# Altium footprint library PcbLib_ADH.PcbLib: 136 footprints (part 7 of 9)
Each footprint in its own frame and in the unit in brackets; x right, y up, seen from the top. Pads: shape width x height; smd on the part's side, far side on the other; paste and mask are expansions set on the pad; w line width, h text height; cw(c..) or ccw(c..) is an arc to the next point about the centre after c.
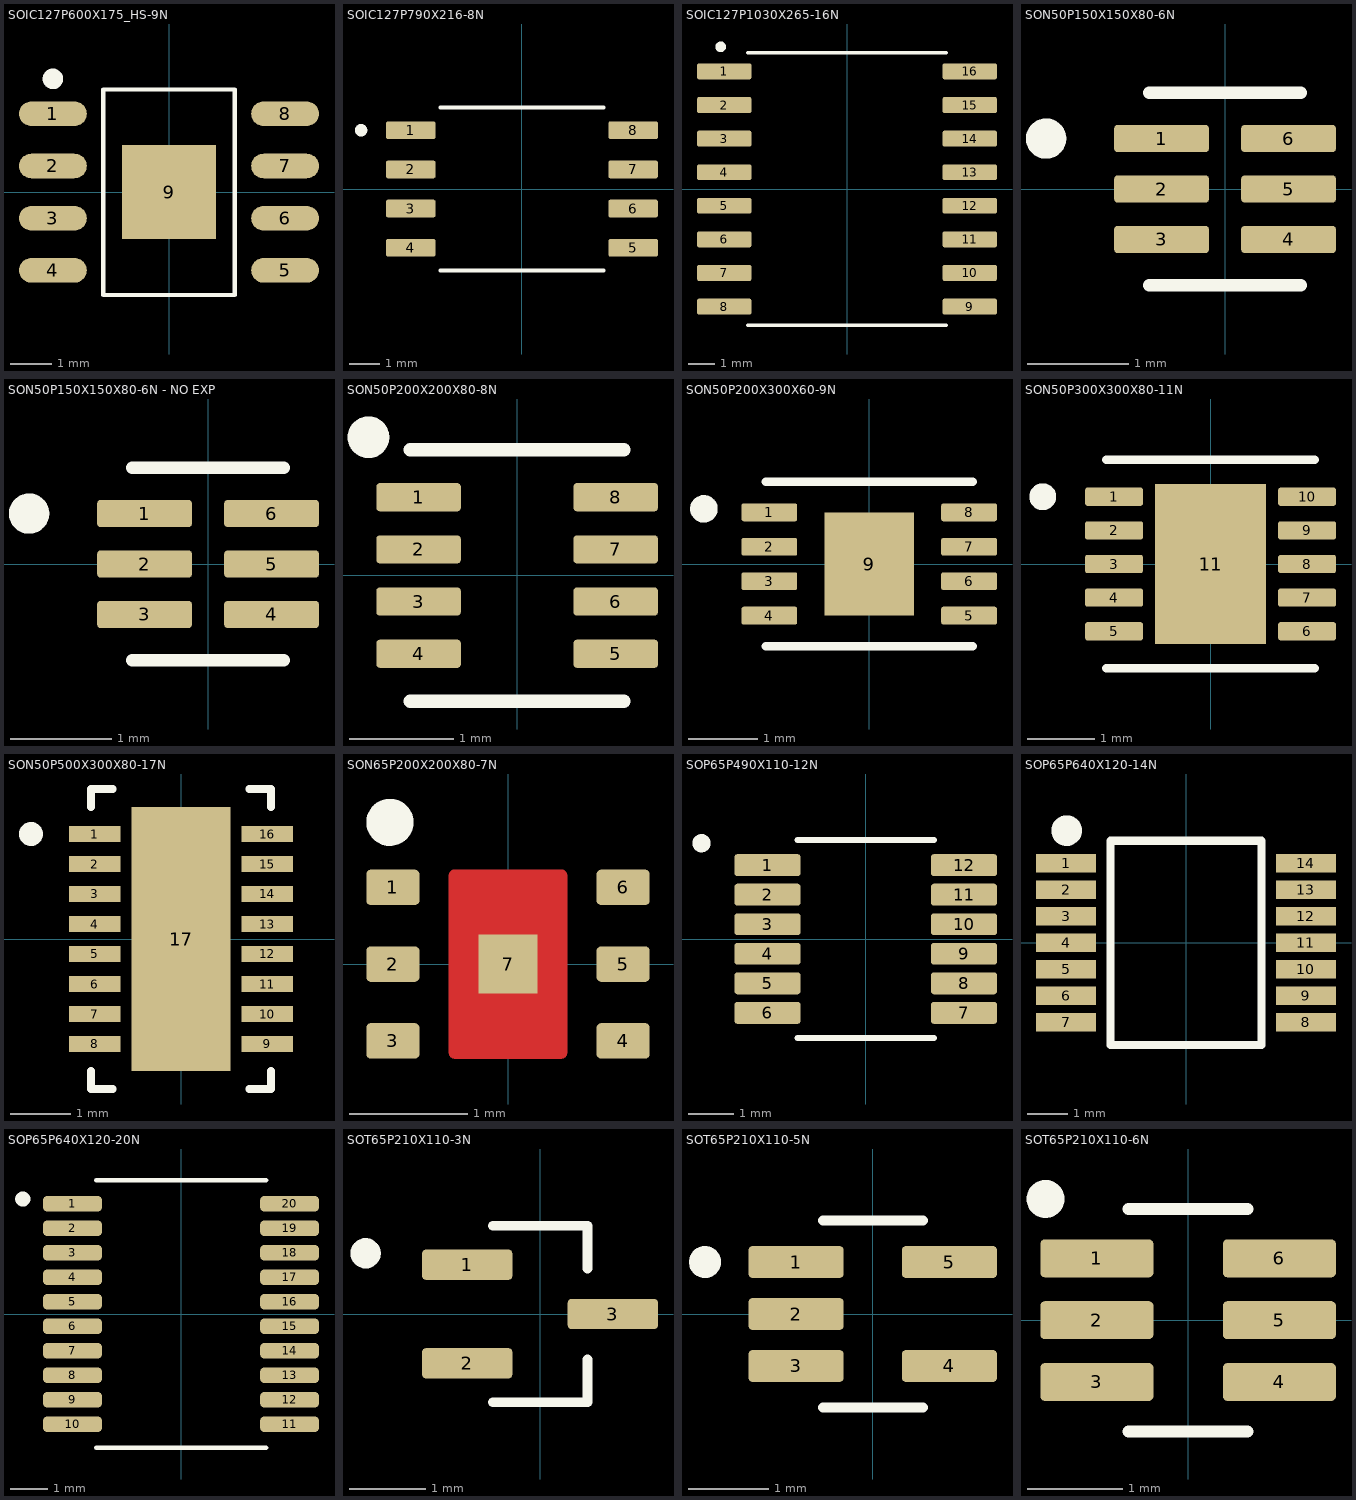
[diagram p6: the footprints below, top view; thin cyan lines are the x and y axes]

## SOIC127P600X175_HS-9N [mm] "SOIC, 8-Leads, Body 4,90x3,90mm, Pitch 1,27mm, Thermal Pad 2,29x2,29mm, IPC Medium Density"
height 1.75
pads (9):
  oval 1.65x0.6 smd: 1(-2.825,1.905) 2(-2.825,0.635) 3(-2.825,-0.635) 4(-2.825,-1.905) 5(2.825,-1.905) 6(2.825,-0.635) 7(2.825,0.635) 8(2.825,1.905)
  rect 2.29x2.29 smd: 9(0,0)
Top Overlay:
  circle w0.25: c-2.825,2.755 r0.125
  lines w0.1: -1.6,-2.5 1.6,-2.5 1.6,2.5 -1.6,2.5 -1.6,-2.5
3D body "SOIC127P600X175_HS-9N.step": height 1.75, standoff 0, extent -3,-2.5 3,2.5

## SOIC127P790X216-8N [mm]
pads (8):
  rrect25% 1.61x0.58 smd: 1(-3.605,1.905) 2(-3.605,0.635) 3(-3.605,-0.635) 4(-3.605,-1.905) 5(3.605,-1.905) 6(3.605,-0.635) 7(3.605,0.635) 8(3.605,1.905)
Top Overlay:
  circle w0.2: c-5.215,1.905 r0.1
  lines w0.127: -2.64,-2.64 2.64,-2.64 ; -2.64,2.64 2.64,2.64
3D body "step_temp.STEP": height 2.16, standoff 0, extent -3.95,-2.64 3.95,2.64

## SOIC127P1030X265-16N [mm]
pads (16):
  rrect25% 2.06x0.6 smd: 1(-4.64,4.445) 2(-4.64,3.175) 3(-4.64,1.905) 4(-4.64,0.635) 5(-4.64,-0.635) 6(-4.64,-1.905) 7(-4.64,-3.175) 8(-4.64,-4.445) 9(4.64,-4.445) 10(4.64,-3.175) 11(4.64,-1.905) 12(4.64,-0.635) 13(4.64,0.635) 14(4.64,1.905) 15(4.64,3.175) 16(4.64,4.445)
Top Overlay:
  circle w0.2: c-4.775,5.375 r0.1
  lines w0.127: -3.75,-5.15 3.75,-5.15 ; -3.75,5.15 3.75,5.15
3D body "step_temp.STEP": height 2.67, standoff 0.02, extent -5.15,-5.15 5.15,5.15

## SON50P150X150X80-6N [mm]
pads (6):
  rrect25% 0.94x0.27 smd: 1(-0.63,0.5) 2(-0.63,0) 3(-0.63,-0.5) 4(0.63,-0.5) 5(0.63,0) 6(0.63,0.5)
Top Overlay:
  circle w0.2: c-1.775,0.5 r0.1
  lines w0.127: -0.75,-0.955 0.75,-0.955 ; -0.75,0.955 0.75,0.955
3D body "step_temp.STEP": height 0.8, standoff 0, extent -0.75,-0.75 0.75,0.75

## SON50P150X150X80-6N - NO EXP [mm]
pads (6):
  rrect25% 0.94x0.27 smd: 1(-0.63,0.5) 2(-0.63,0) 3(-0.63,-0.5) 4(0.63,-0.5) 5(0.63,0) 6(0.63,0.5)
Top Overlay:
  circle w0.2: c-1.775,0.5 r0.1
  lines w0.127: -0.75,-0.955 0.75,-0.955 ; -0.75,0.955 0.75,0.955
3D body "step_temp.STEP": height 0.8, standoff 0, extent -0.75,-0.75 0.75,0.75

## SON50P200X200X80-8N [mm]
pads (8):
  rrect25% 0.81x0.27 smd: 1(-0.945,0.75) 2(-0.945,0.25) 3(-0.945,-0.25) 4(-0.945,-0.75) 5(0.945,-0.75) 6(0.945,-0.25) 7(0.945,0.25) 8(0.945,0.75)
Top Overlay:
  circle w0.2: c-1.425,1.325 r0.1
  lines w0.127: -1.025,-1.205 1.025,-1.205 ; -1.025,1.205 1.025,1.205
3D body "MAX15062AATA+T.stp": height 0.9, standoff 0, extent -1,-1 1,1

## SON50P200X300X60-9N [mm]
pads (9):
  rrect25% 0.81x0.26 smd: 1(-1.45,0.75) 2(-1.45,0.25) 3(-1.45,-0.25) 4(-1.45,-0.75) 5(1.45,-0.75) 6(1.45,-0.25) 7(1.45,0.25) 8(1.45,0.75)
  rect 1.3x1.5 smd paste-2: 9(0,0)
Top Overlay:
  circle w0.2: c-2.4,0.8 r0.1
  lines w0.127: -1.5,-1.194 1.5,-1.194 ; -1.5,1.194 1.5,1.194
Top Paste:
  region: 0.411,-0.474 -0.411,-0.474 -0.411,0.474 0.411,0.474
3D body "AT24C02D-MAHM-T.STEP": height 0.61, standoff 0.01, extent -1.5,-1 1.5,1

## SON50P300X300X80-11N [mm]
pads (11):
  rrect25% 0.86x0.27 smd: 1(-1.435,1) 2(-1.435,0.5) 3(-1.435,0) 4(-1.435,-0.5) 5(-1.435,-1) 6(1.435,-1) 7(1.435,-0.5) 8(1.435,0) 9(1.435,0.5) 10(1.435,1)
  rect 1.65x2.38 smd paste-2: 11(0,0)
Top Overlay:
  circle w0.2: c-2.495,1 r0.1
  lines w0.127: -1.55,-1.55 1.55,-1.55 ; -1.55,1.55 1.55,1.55
Top Paste:
  region: 0.52,-0.75 -0.52,-0.75 -0.52,0.75 0.52,0.75
3D body "step_temp.STEP": height 0.8, standoff 0, extent -1.5,-1.5 1.5,1.5

## SON50P500X300X80-17N [mm]
pads (17):
  rect 0.86x0.27 smd mask+0.05: 1(-1.435,1.75) 2(-1.435,1.25) 3(-1.435,0.75) 4(-1.435,0.25) 5(-1.435,-0.25) 6(-1.435,-0.75) 7(-1.435,-1.25) 8(-1.435,-1.75) 9(1.435,-1.75) 10(1.435,-1.25) 11(1.435,-0.75) 12(1.435,-0.25) 13(1.435,0.25) 14(1.435,0.75) 15(1.435,1.25) 16(1.435,1.75)
  rect 1.65x4.4 smd paste-3 mask+0.05: 17(0,0)
Top Overlay:
  circle w0.2: c-2.5,1.75 r0.1
  lines w0.127: -1.5,-2.2 -1.5,-2.5 -1.14,-2.5 ; -1.5,2.2 -1.5,2.5 -1.14,2.5 ; 1.14,-2.5 1.5,-2.5 1.5,-2.2 ; 1.14,2.5 1.5,2.5 1.5,2.2
Top Paste:
  region: 0.405,0.14 -0.405,0.14 -0.405,1.92 0.405,1.92
  region: 0.405,-1.92 -0.405,-1.92 -0.405,-0.14 0.405,-0.14
3D body "step_temp.STEP": height 0.8, standoff 0, extent -1.5,-2.5 1.5,2.5

## SON65P200X200X80-7N [mm]
pads (7):
  rrect25% 0.45x0.3 smd mask+0: 1(-0.975,0.65) 2(-0.975,0) 3(-0.975,-0.65) 4(0.975,-0.65) 5(0.975,0) 6(0.975,0.65)
  rect 0.5x0.5 smd paste-1 mask+0: 7(0,0)
Top Layer:
  region: 0.458,0.799 0.46,0.799 0.463,0.798 0.465,0.798 0.468,0.797 0.47,0.796 0.473,0.795 0.475,0.793 0.477,0.792 0.479,0.79 0.481,0.789 0.483,0.787 0.485,0.785 0.487,0.783 0.489,0.781 0.49,0.779 0.492,0.777 0.493,0.775 0.495,0.773 0.496,0.77 0.497,0.768 0.498,0.765 0.498,0.763 0.499,0.76 0.499,0.758 0.5,0.755 0.5,0.753 0.5,0.75 0.5,-0.75 0.5,-0.753 0.5,-0.755 0.499,-0.758 0.499,-0.76 0.498,-0.763 0.498,-0.765 0.497,-0.768 0.496,-0.77 0.495,-0.773 0.493,-0.775 0.492,-0.777 0.49,-0.779 0.489,-0.781 0.487,-0.783 0.485,-0.785 0.483,-0.787 0.481,-0.789 0.479,-0.79 0.477,-0.792 0.475,-0.793 0.473,-0.795 0.47,-0.796 0.468,-0.797 0.465,-0.798 0.463,-0.798 0.46,-0.799 0.458,-0.799 0.455,-0.8 -0.455,-0.8 -0.458,-0.799 -0.46,-0.799 -0.463,-0.798 -0.465,-0.798 -0.468,-0.797 -0.47,-0.796 -0.473,-0.795 -0.475,-0.793 -0.477,-0.792 -0.479,-0.79 -0.481,-0.789 -0.483,-0.787 -0.485,-0.785 -0.487,-0.783 -0.489,-0.781 -0.49,-0.779 -0.492,-0.777 -0.493,-0.775 -0.495,-0.773 -0.496,-0.77 -0.497,-0.768 -0.498,-0.765 -0.498,-0.763 -0.499,-0.76 -0.499,-0.758 -0.5,-0.755 -0.5,-0.753 -0.5,-0.75 -0.5,0.75 -0.5,0.753 -0.5,0.755 -0.499,0.758 -0.499,0.76 -0.498,0.763 -0.498,0.765 -0.497,0.768 -0.496,0.77 -0.495,0.773 -0.493,0.775 -0.492,0.777 -0.49,0.779 -0.489,0.781 -0.487,0.783 -0.485,0.785 -0.483,0.787 -0.481,0.789 -0.479,0.79 -0.477,0.792 -0.475,0.793 -0.473,0.795 -0.47,0.796 -0.468,0.797 -0.465,0.798 -0.463,0.798 -0.46,0.799 -0.458,0.799 -0.455,0.8 0.455,0.8
Top Overlay:
  circle w0.2: c-1,1.2 r0.1
Top Paste:
  drawing of 2 lines, arcs and shapes, not listed
Top Solder:
  drawing of 7 lines, arcs and shapes, not listed
3D body "step_temp.STEP": height 0.8, standoff 0, extent -1,-1 1,1

## SOP65P490X110-12N [mm]
pads (12):
  rrect25% 1.45x0.48 smd: 1(-2.16,1.625) 2(-2.16,0.975) 3(-2.16,0.325) 4(-2.16,-0.325) 5(-2.16,-0.975) 6(-2.16,-1.625) 7(2.16,-1.625) 8(2.16,-0.975) 9(2.16,-0.325) 10(2.16,0.325) 11(2.16,0.975) 12(2.16,1.625)
Top Overlay:
  circle w0.2: c-3.61,2.105 r0.1
  lines w0.127: -1.5,-2.178 1.5,-2.178 ; -1.5,2.178 1.5,2.178
3D body "User Library-msop-12.STEP": height 1.1, standoff 0, extent -2.45,-2.02 2.45,2.02

## SOP65P640X120-14N [mm]
pads (14):
  rect 1.475x0.45 smd: 1(-2.938,1.95) 2(-2.938,1.3) 3(-2.938,0.65) 4(-2.938,0) 5(-2.938,-0.65) 6(-2.938,-1.3) 7(-2.938,-1.95) 8(2.938,-1.95) 9(2.938,-1.3) 10(2.938,-0.65) 11(2.938,0) 12(2.938,0.65) 13(2.938,1.3) 14(2.938,1.95)
Top Overlay:
  circle w0.5: c-2.925,2.75 r0.125
  lines w0.2: -1.85,-2.5 -1.85,2.5 1.85,2.5 1.85,-2.5 -1.85,-2.5
3D body "USB1T11AMTC.STEP": height 1.06, standoff -0.14, extent -3.2,-2.5 3.2,2.5

## SOP65P640X120-20N [mm]
pads (20):
  rrect50% 1.56x0.41 smd: 1(-2.88,2.925) 2(-2.88,2.275) 3(-2.88,1.625) 4(-2.88,0.975) 5(-2.88,0.325) 6(-2.88,-0.325) 7(-2.88,-0.975) 8(-2.88,-1.625) 9(-2.88,-2.275) 10(-2.88,-2.925) 11(2.88,-2.925) 12(2.88,-2.275) 13(2.88,-1.625) 14(2.88,-0.975) 15(2.88,-0.325) 16(2.88,0.325) 17(2.88,0.975) 18(2.88,1.625) 19(2.88,2.275) 20(2.88,2.925)
Top Overlay:
  circle w0.2: c-4.2,3.05 r0.1
  lines w0.127: -2.25,-3.55 2.25,-3.55 ; -2.25,3.55 2.25,3.55
3D body "step_temp.STEP": height 1.18, standoff -0.02, extent -3.2,-3.25 3.2,3.25

## SOT65P210X110-3N [mm]
pads (3):
  rrect25% 1.19x0.4 smd: 1(-0.96,0.65) 2(-0.96,-0.65) 3(0.96,0)
Top Overlay:
  circle w0.2: c-2.3,0.8 r0.1
  lines w0.127: -0.625,-1.164 0.625,-1.164 0.625,-0.6 ; -0.625,1.164 0.625,1.164 0.625,0.6
3D body "ESDCAN02-2BWY.stp": height 1.1, standoff 0, extent -1.05,-1 1.05,1

## SOT65P210X110-5N [mm]
pads (5):
  rrect25% 1.19x0.4 smd: 1(-0.96,0.65) 2(-0.96,0) 3(-0.96,-0.65) 4(0.96,-0.65) 5(0.96,0.65)
Top Overlay:
  circle w0.2: c-2.1,0.65 r0.1
  lines w0.127: -0.625,-1.17 0.625,-1.17 ; -0.625,1.17 0.625,1.17
3D body "LMV321IDCKR.STEP": height 1.01, standoff -0.09, extent -1.05,-1 1.05,1

## SOT65P210X110-6N [mm]
pads (6):
  rrect25% 1.19x0.4 smd: 1(-0.96,0.65) 2(-0.96,0) 3(-0.96,-0.65) 4(0.96,-0.65) 5(0.96,0) 6(0.96,0.65)
Top Overlay:
  circle w0.2: c-1.5,1.275 r0.1
  lines w0.127: -0.625,-1.17 0.625,-1.17 ; -0.625,1.17 0.625,1.17
3D body "SN74LVC1T45DCKR.STEP": height 1.01, standoff -0.09, extent -1.05,-1 1.05,1